# Altium footprint library SMB(DO-214AA).PcbLib: 1 footprints
Each footprint in its own frame and in the unit in brackets; x right, y up, seen from the top. Pads: shape width x height; smd on the part's side, far side on the other; paste and mask are expansions set on the pad; w line width, h text height; cw(c..) or ccw(c..) is an arc to the next point about the centre after c.
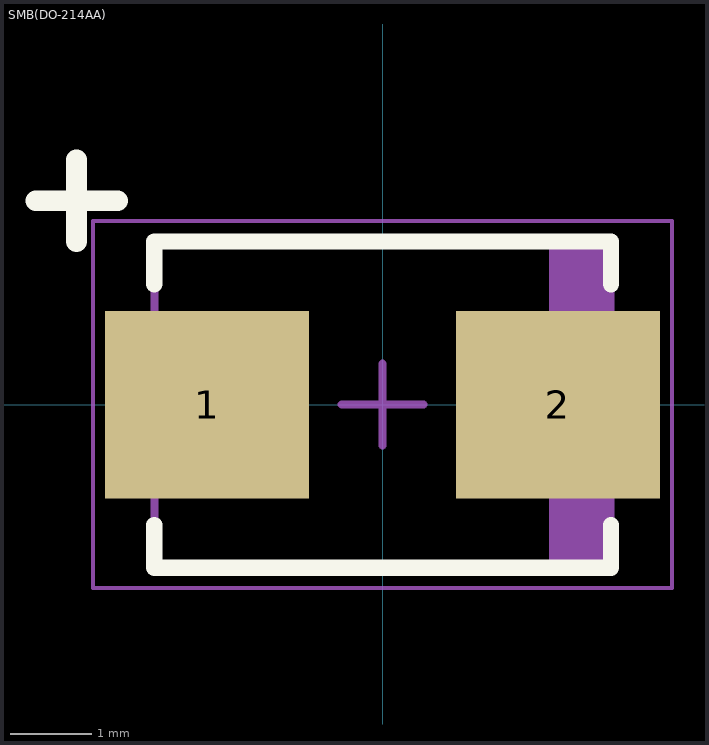
[diagram p0: the footprint, top view; thin cyan lines are the x and y axes]

## SMB(DO-214AA) [mm]
height 3
pads (2):
  rect 2.5x2.3 smd: 1(-2.15,0) 2(2.15,0)
Top Overlay:
  lines w0.2: -2.8,-1.475 -2.8,-2 2.8,-2 2.8,-1.475 ; -2.8,1.475 -2.8,2 2.8,2 2.8,1.475
  lines w0.254: -4.25,2.5 -3.25,2.5 ; -3.75,2 -3.75,3
Mechanical 13:
  rectangle: 2.043,-1.97 2.795,1.97
  lines w0.1: -2.795,-1.97 -2.795,1.97 2.795,1.97 2.795,-1.97 -2.795,-1.97
Mechanical 15:
  lines w0.05: -3.55,-2.25 -3.55,2.25 3.55,2.25 3.55,-2.25 -3.55,-2.25
  lines w0.1: -0.5,0 0.5,0 ; 0,-0.5 0,0.5
3D body "SMB.stp": height 2.65, standoff 0, extent -2.8,-1.98 2.8,1.97